# EAGLE library part 74*07 (library std-logic-74xx)
Hex BUFFER, open collector high-voltage output
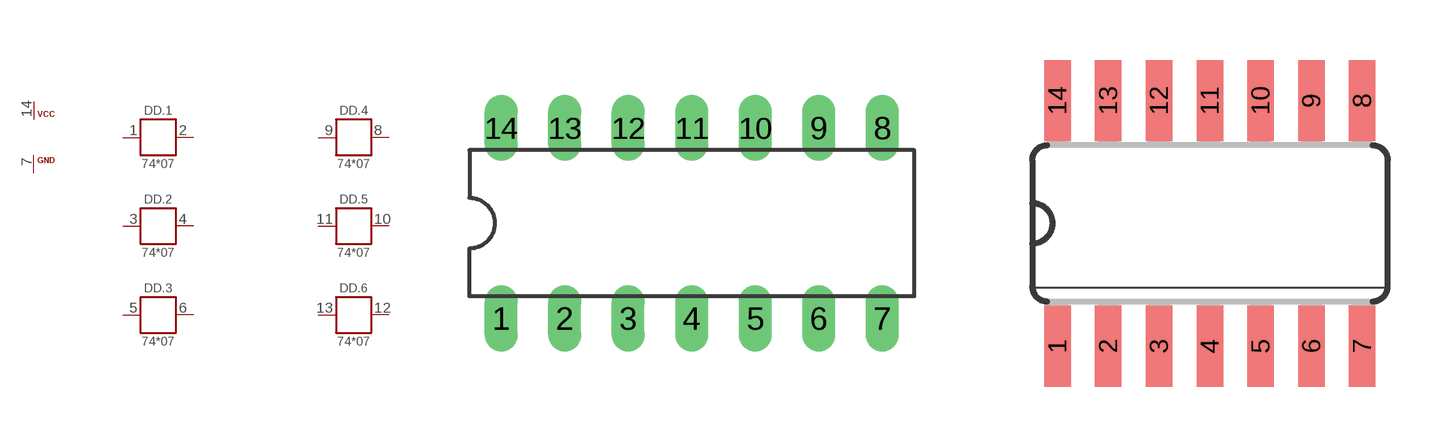
[diagram p2: symbol with the pads of DIL14; footprints DIL14, SO14]

Designator prefix DD; gates .1=7407 .2=7407 .3=7407 .4=7407 .5=7407 .6=7407 G$1=PWRN-2CELLS

## 7407N, 74LS07N  [DIL14]
1  .1:I  in
2  .1:O  oc
3  .2:I  in
4  .2:O  oc
5  .3:I  in
6  .3:O  oc
7  G$1:GND  pwr
8  .4:O  oc
9  .4:I  in
10  .5:O  oc
11  .5:I  in
12  .6:O  oc
13  .6:I  in
14  G$1:VCC  pwr

## 7407D, 74LS07D  [SO14]
Pads as for DIL14

## Footprint DIL14 (pad centres in mm)
Dual In Line Package
drill 0.813 long: 1 -7.62,-3.81; 2 -5.08,-3.81; 3 -2.54,-3.81; 4 0,-3.81; 5 2.54,-3.81; 6 5.08,-3.81; 7 7.62,-3.81; 8 7.62,3.81; 9 5.08,3.81; 10 2.54,3.81; 11 0,3.81; 12 -2.54,3.81; 13 -5.08,3.81; 14 -7.62,3.81

## Footprint SO14 (pad centres in mm)
Small Outline package 150 mil
smd 0.66 x 2.032: 1 -3.81,-3.073; 2 -2.54,-3.073; 3 -1.27,-3.073; 4 0,-3.073; 5 1.27,-3.073; 6 2.54,-3.073; 7 3.81,-3.073; 8 3.81,3.073; 9 2.54,3.073; 10 1.27,3.073; 11 0,3.073; 12 -1.27,3.073; 13 -2.54,3.073; 14 -3.81,3.073